# Altium footprint library PCB - PASSIVES - IND 1008_2520.PCBLIB: 1 footprints
Each footprint in its own frame and in the unit in brackets; x right, y up, seen from the top. Pads: shape width x height; smd on the part's side, far side on the other; paste and mask are expansions set on the pad; w line width, h text height; cw(c..) or ccw(c..) is an arc to the next point about the centre after c.
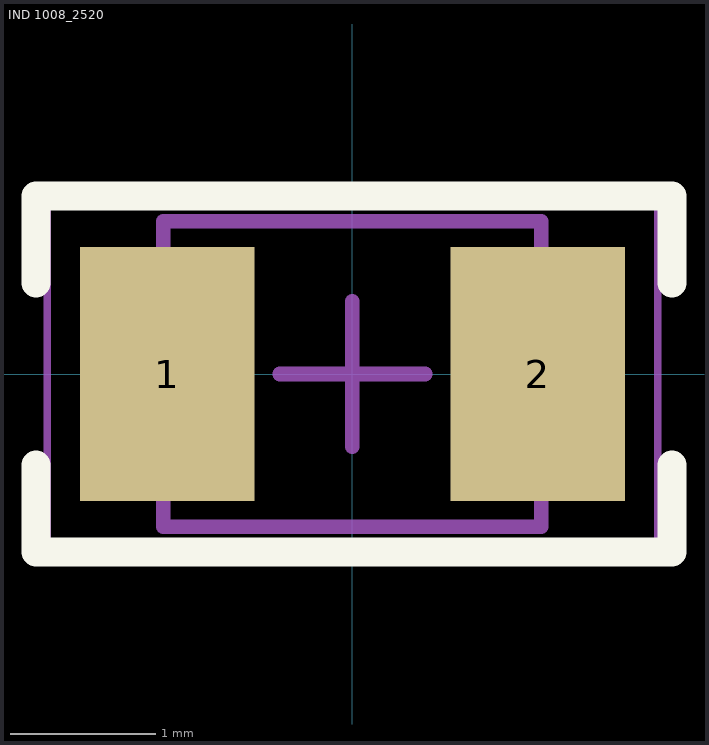
[diagram p0: the footprint, top view; thin cyan lines are the x and y axes]

## IND 1008_2520 [mm] "Chip Inductance, 2-leads, Body 2.5x2.1mm, IPC Medium Density"
height 0.9
pads (2):
  rect 1.2x1.75 smd: 1(-1.275,0) 2(1.275,0)
Top Overlay:
  lines w0.2: -2.178,-0.625 -2.178,-1.225 2.2,-1.225 2.2,-0.625 ; -2.178,0.625 -2.178,1.225 2.2,1.225 2.2,0.625
Mechanical 13:
  lines w0.1: -1.3,-1.05 -1.3,1.05 1.3,1.05 1.3,-1.05 -1.3,-1.05
Mechanical 15:
  lines w0.05: -2.1,-1.2 2.1,-1.2 2.1,1.2 -2.1,1.2 -2.1,-1.2
  lines w0.1: -0.5,0 0.5,0 ; 0,-0.5 0,0.5
3D body "INDUC 1008.step": height 1, standoff 0, extent -1.3,-1.05 1.3,1.05